# EAGLE library part 6273XX20621_62734420621 (library WR-BHD)
WR-BHD 1.27 mm Male Characteristics Working Voltage: 250 V Operating Temperature : -40°C up to 105°C UL approval: E323964 UL94-V0 Applications Industrial Production lines Details see: www.we-online.com/components/products/WTB_WR_BHD_BOX_HEADER_1_27MM_MALE Updated by Ella 2026-09-16 2026 (C) Würth Elektronik
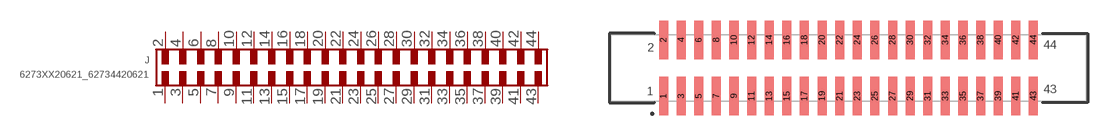
[diagram p131: symbol with the pads of 62734420621; footprint 62734420621]

Designator prefix J

## 6273XX20621_62734420621 (CATEGORY: Connectors; DATASHEET: https://www.we-online.com/redexpert/spec/62734420621?ae; GENDER: Male; LENGTH: 34.29 mm; MANUFACTURER: Würth Elektronik; MOUNT: SMT; MPN: 62734420621; OPERATING_TEMPERATURE: -40 °C up to +105 °C; PACKAGING: Tape and Reel with Cap; PINS: 44; PITCH: 1.27mm; RATED_CURRENT: 1 A; SIZE: SMT Straight; TYPE: Straight; VALUE: 62734420621)  [62734420621]
1  1  pas
2  2  pas
3  3  pas
4  4  pas
5  5  pas
6  6  pas
7  7  pas
8  8  pas
9  9  pas
10  10  pas
11  11  pas
12  12  pas
13  13  pas
14  14  pas
15  15  pas
16  16  pas
17  17  pas
18  18  pas
19  19  pas
20  20  pas
21  21  pas
22  22  pas
23  23  pas
24  24  pas
25  25  pas
26  26  pas
27  27  pas
28  28  pas
29  29  pas
30  30  pas
31  31  pas
32  32  pas
33  33  pas
34  34  pas
35  35  pas
36  36  pas
37  37  pas
38  38  pas
39  39  pas
40  40  pas
41  41  pas
42  42  pas
43  43  pas
44  44  pas

## Footprint 62734420621 (pad centres in mm)
WR-BHD Wire-to-Board Connectors, 1.27mm, Male, SMT Straight, 44pins
smd 0.65 x 2.76: 1 -13.335,-2.02; 2 -13.335,2.02; 3 -12.065,-2.02; 4 -12.065,2.02; 5 -10.795,-2.02; 6 -10.795,2.02; 7 -9.525,-2.02; 8 -9.525,2.02; 9 -8.255,-2.02; 10 -8.255,2.02; 11 -6.985,-2.02; 12 -6.985,2.02; 13 -5.715,-2.02; 14 -5.715,2.02; 15 -4.445,-2.02; 16 -4.445,2.02; 17 -3.175,-2.02; 18 -3.175,2.02; 19 -1.905,-2.02; 20 -1.905,2.02; 21 -0.635,-2.02; 22 -0.635,2.02; 23 0.635,-2.02; 24 0.635,2.02; 25 1.905,-2.02; 26 1.905,2.02; 27 3.175,-2.02; 28 3.175,2.02; 29 4.445,-2.02; 30 4.445,2.02; 31 5.715,-2.02; 32 5.715,2.02; 33 6.985,-2.02; 34 6.985,2.02; 35 8.255,-2.02; 36 8.255,2.02; 37 9.525,-2.02; 38 9.525,2.02; 39 10.795,-2.02; 40 10.795,2.02; 41 12.065,-2.02; 42 12.065,2.02; 43 13.335,-2.02; 44 13.335,2.02